# EAGLE library part MEC_SW (library lbm)
MEC switch w LED
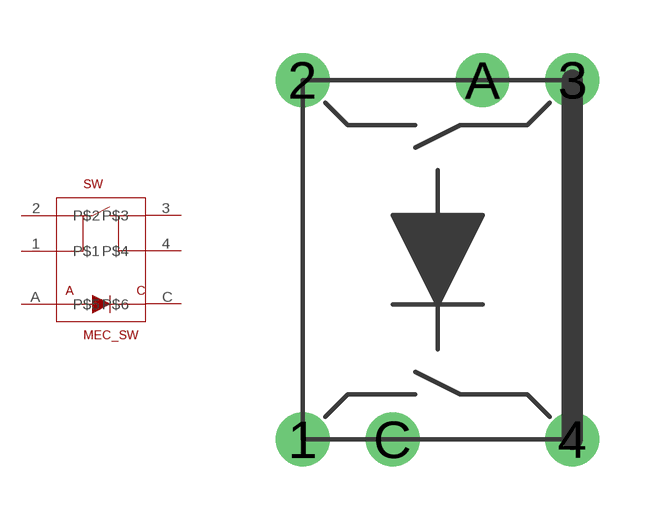
[diagram p0: symbol with the pads of MEC_SW; footprint MEC_SW]

Designator prefix SW

## MEC_SW  [MEC_SW]
1  P$1
2  P$2
3  P$3
4  P$4
A  P$5
C  P$6

## Footprint MEC_SW (pad centres in mm)
MEC switch w LED
drill 1.016 round: 1 -3.81,-5.08; 2 -3.81,5.08; 3 3.81,5.08; 4 3.81,-5.08; A 1.27,5.08; C -1.27,-5.08